# Altium schematic symbol library 190822 Integrated DED Equipment.SCHLIB: 43 symbols
Pins are listed as number, name and electrical type; pins without a type are passive.

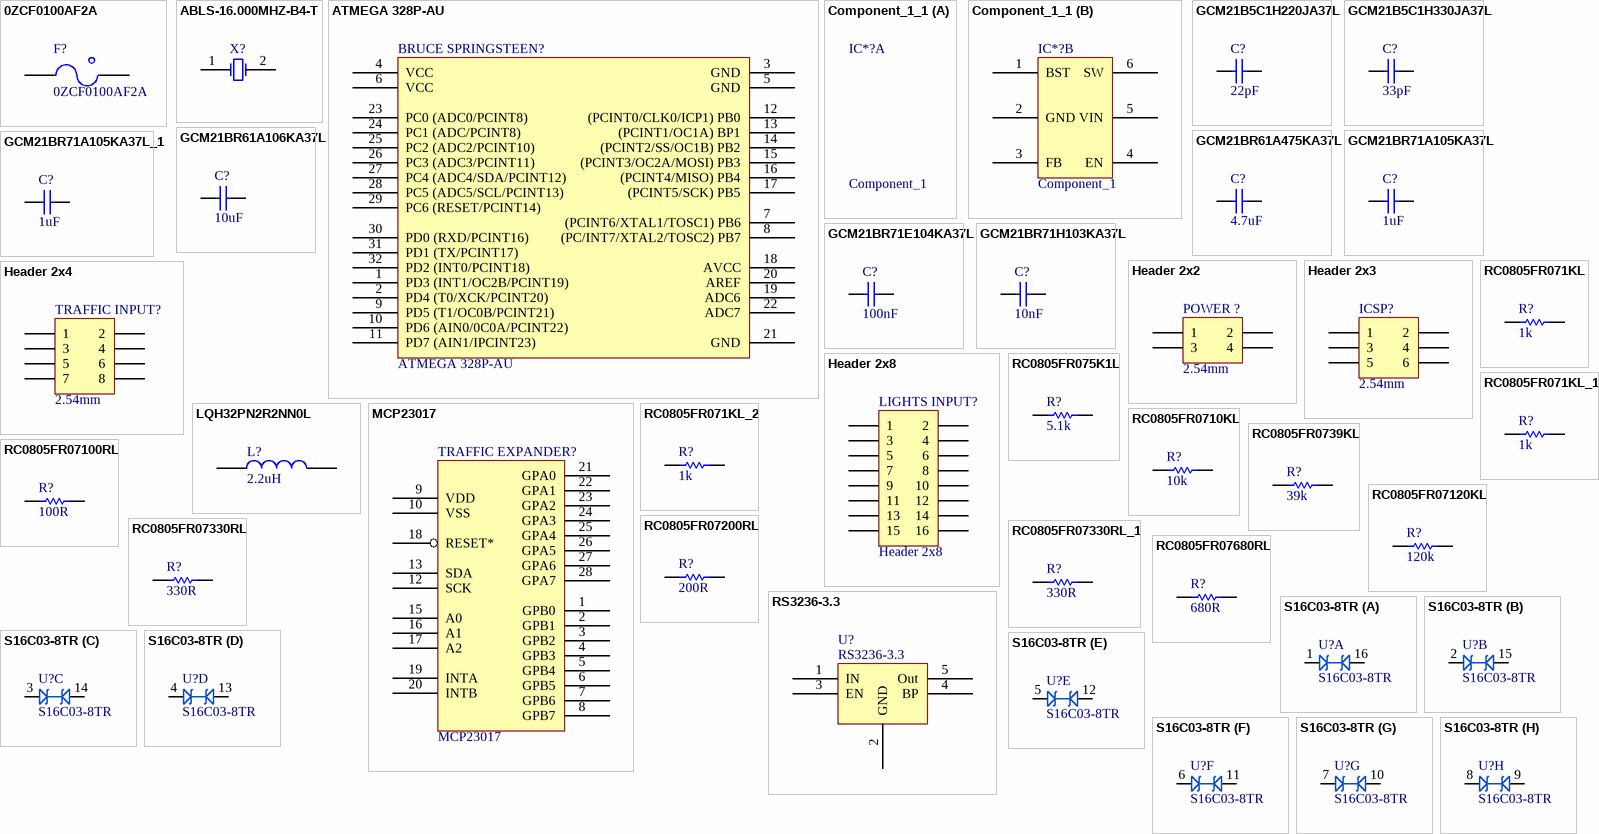
[diagram p0: symbols 0ZCF0100AF2A to S16C03-8TR]

## 0ZCF0100AF2A
designator F?
PTC RESET FUSE 60V 1A 292; Manufacturer: Littelfuse Inc.; Part Number: 0ZCF0100AF2A; Digikey Part Number: 507-2070-1-ND; Digikey Link: https://www.digikey.com/product-detail/en/bel-fuse-inc/0ZCF0100AF2A/507-2070-1-ND/6210547
footprint 2920
pins: 1, 2

## ABLS-16.000MHZ-B4-T
designator X?
Manufacturer: Abracon LLC; Part Number: ABLS-16.000MHZ-B4-T; Load Capacitance: 18pF; ESR: 40R; Digikey Part Number: 535-10226-1-ND; Digikey Link: https://www.digikey.com/product-detail/en/abracon-llc/ABLS-16.000MHZ-B4-T/535-10226-1-ND/2184261
footprint Abracon HC-49/US
pins: 1 OSC1, 2 OSC2

## ATMEGA 328P-AU
designator BRUCE SPRINGSTEEN?
AVR AVR® ATmega Microcontroller IC 8-Bit 20MHz 32KB (16K x 16) FLASH 32-TQFP (7x7); Manufacturer: ATMEL; Part Number: ATMEGA 328P-AU; Digikey Part Number: ATMEGA328P-AU-ND; Digikey Link: https://www.digikey.com/product-detail/en/microchip-technology/ATMEGA328P-AU/ATMEGA328P-AU-ND/1832260
footprint ATMEL TQFP-32
pins: 1 PD3 (INT1/OC2B/PCINT19) "(PCINT19/OC2B/INT1) PD3", 2 PD4 (T0/XCK/PCINT20) "(PCINT20/XCK/T0) PD4", 3 GND, 4 VCC, 5 GND, 6 VCC, 7 (PCINT6/XTAL1/TOSC1) PB6, 8 (PC/INT7/XTAL2/TOSC2) PB7, 9 PD5 (T1/OC0B/PCINT21) "(PCINT21/OC0B/T1) PD5", 10 PD6 (AIN0/0C0A/PCINT22) "(PCINT22/OC0A/AIN0) PD6", 11 PD7 (AIN1/IPCINT23) "(PCINT23/AIN1) PD7", 12 (PCINT0/CLK0/ICP1) PB0, 13 (PCINT1/OC1A) BP1, 14 (PCINT2/SS/OC1B) PB2, 15 (PCINT3/OC2A/MOSI) PB3, 16 (PCINT4/MISO) PB4, 17 (PCINT5/SCK) PB5 "PB5 (SCK/PCINT5)", 18 AVCC, 19 ADC6, 20 AREF, 21 GND, 22 ADC7, 23 PC0 (ADC0/PCINT8), 24 PC1 (ADC/PCINT8), 25 PC2 (ADC2/PCINT10), 26 PC3 (ADC3/PCINT11), 27 PC4 (ADC4/SDA/PCINT12), 28 PC5 (ADC5/SCL/PCINT13), 29 PC6 (RESET/PCINT14), 30 PD0 (RXD/PCINT16), 31 PD1 (TX/PCINT17), 32 PD2 (INT0/PCINT18)

## Component_1_1
designator IC*?, comment Component_1
MP2451
footprint MP2451 SOT23-6 (MP2451 SOT23-6 ADJ DCDC Buck Converter)
part B pins: 1 BST, 2 GND, 3 FB, 4 EN, 5 VIN, 6 SW

## GCM21B5C1H220JA37L
designator C?, comment 22pF
Part Number: GCM21B5C1H220JA37L; Manufacturer: muRata; Tolerance: 5%; Material: C0G; Rated Voltage: 50V; Value: 22pF
footprint 0805
pins: 1, 2

## GCM21B5C1H330JA37L
designator C?, comment 33pF
Part Number: GCM21B5C1H330JA37L; Manufacturer: muRata; Tolerance: 5%; Material: C0G; Rated Voltage: 50V; Value: 33pF
footprint 0805
pins: 1, 2

## GCM21BR61A106KA37L
designator C?, comment 10uF
Part Number: GCM21BR61A106KA37L; Manufacturer: muRata; Tolerance: 10%; Material: X5R; Rated Voltage: 10V; Value: 10uF
footprint 0805
pins: 1, 2

## GCM21BR61A475KA37L
designator C?, comment 4.7uF
Part Number: GCM21BR61A475KA37L; Manufacturer: muRata; Tolerance: 10%; Material: X5R; Rated Voltage: 10V; Value: 4.7uF
footprint 0805
pins: 1, 2

## GCM21BR71A105KA37L
designator C?, comment 1uF
Part Number: GCM21BR71A105KA37L; Manufacturer: muRata; Tolerance: 10%; Material: X7R; Rated Voltage: 10V; Value: 1uF
footprint 0805
pins: 1, 2

## GCM21BR71A105KA37L_1
designator C?, comment 1uF
Part Number: GCM21BR71A105KA37L; Manufacturer: muRata; Tolerance: 10%; Material: X7R; Rated Voltage: 10V; Value: 1uF
footprint 0805
pins: 1, 2

## GCM21BR71E104KA37L
designator C?, comment 100nF
Part Number: GCM21BR71E104KA37L; Manufacturer: muRata; Tolerance: 10%; Material: X7R; Rated Voltage: 25V; Value: 100nF
footprint 0805
pins: 1, 2

## GCM21BR71H103KA37L
designator C?, comment 10nF
Part Number: GCM21BR71H103KA37L; Manufacturer: muRata; Tolerance: 10%; Material: X7R; Rated Voltage: 50V; Value: 10nF
footprint 0805
pins: 1, 2

## Header 2x2
designator POWER ?, comment 2.54mm
Part Number: Header 2x2; Positions: 4; Angle: 0; Flange: No; Contact: NA; Pitch: 2.54mm; Row Spacing: 2.54mm
footprint Header 2x2
pins: 1, 2, 3, 4

## Header 2x3
designator ICSP?, comment 2.54mm
Part Number: Header 2x3; Positions: 6; Angle: 0; Flange: No; Contact: NA; Pitch: 2.54mm; Row Spacing: 2.54mm
footprint Header 2x3
pins: 1, 2, 3, 4, 5, 6

## Header 2x4
designator TRAFFIC INPUT?, comment 2.54mm
Part Number: Header 2x4; Positions: 8; Angle: 0; Flange: No; Contact: NA; Pitch: 2.54mm; Row Spacing: 2.54mm
footprint Header 2x4
pins: 1, 2, 3, 4, 5, 6, 7, 8

## Header 2x8
designator LIGHTS INPUT?
Positions: 16; Pitch: 2.54mm; Angle: 0; Flange: No; Contact: NA; Part Number: Header 2x8; Row Spacing: 2.54mm
footprint Header 2x8
pins: 1, 2, 3, 4, 5, 6, 7, 8, 9, 10, 11, 12, 13, 14, 15, 16

## LQH32PN2R2NN0L
designator L?, comment 2.2uH
Manufacturer: Murata; Part Number: LQH32PN2R2NN0L; Tolerance: 0.3; Rated Current: 1.55A; Value: 2.2uH; Digikey Part Number: 490-5336-1-ND
footprint 1210
pins: 1, 2

## MCP23017
designator TRAFFIC EXPANDER?
IC I/O EXPANDER I2C 16B 28SOIC; Manufacturer: Microchip Technology; Part Number: MCP23017; Digikey Part Number: MCP23017T-E/SOTR-ND; Digikey Link: https://www.digikey.com/product-detail/en/microchip-technology/MCP23017T-E-SO/MCP23017T-E-SOTR-ND/964184
footprint Microchip 28-SOIC
pins: 1 GPB0, 2 GPB1, 3 GPB2, 4 GPB3, 5 GPB4, 6 GPB5, 7 GPB6, 8 GPB7, 9 VDD, 10 VSS, 12 SCK, 13 SDA, 15 A0, 16 A1, 17 A2, 18 RESET*, 19 INTA, 20 INTB, 21 GPA0, 22 GPA1, 23 GPA2, 24 GPA3, 25 GPA4, 26 GPA5, 27 GPA6, 28 GPA7

## RC0805FR071KL
designator R?, comment 1k
Manufacturer: YAGEO; Part Number: RC0805FR071KL; Tolerance: 0.01; Rated Voltage: 0.125W; Value: 1k; Material: FR-07; qty: 50
footprint 0805
pins: 1, 2

## RC0805FR071KL_1
designator R?, comment 1k
Manufacturer: YAGEO; Part Number: RC0805FR071KL; Tolerance: 0.01; Rated Voltage: 0.125W; Value: 1k; Material: FR-07; qty: 50
footprint 0805
pins: 1, 2

## RC0805FR071KL_2
designator R?, comment 1k
Manufacturer: YAGEO; Part Number: RC0805FR071KL; Tolerance: 0.01; Rated Voltage: 0.125W; Value: 1k; Material: FR-07; qty: 50
footprint 0805
pins: 1, 2

## RC0805FR075K1L
designator R?, comment 5.1k
Manufacturer: YAGEO; Part Number: RC0805FR075K1L; Tolerance: 0.01; Rated Voltage: 0.125W; Value: 5.1k; Material: FR-07; qty: 50
footprint 0805
pins: 1, 2

## RC0805FR0710KL
designator R?, comment 10k
Part Number: RC0805FR0710KL; Manufacturer: YAGEO; Tolerance: 0.01; Rated Voltage: 0.125W; Value: 10k; Material: FR-07; qty: 50
footprint 0805
pins: 1, 2

## RC0805FR0739KL
designator R?, comment 39k
Manufacturer: YAGEO; Part Number: RC0805FR0739KL; Tolerance: 0.01; Rated Voltage: 0.125W; Value: 39k; Material: FR-07; qty: 50
footprint 0805
pins: 1, 2

## RC0805FR07100RL
designator R?, comment 100R
Part Number: RC0805FR07100RL; Manufacturer: YAGEO; Tolerance: 0.01; Rated Voltage: 0.125W; Value: 100R; Material: FR-07; qty: 50
footprint 0805
pins: 1, 2

## RC0805FR07120KL
designator R?, comment 120k
Manufacturer: YAGEO; Part Number: RC0805FR07120KL; Tolerance: 0.01; Rated Voltage: 0.125W; Value: 120k; Material: FR-07; qty: 50
footprint 0805
pins: 1, 2

## RC0805FR07200RL
designator R?, comment 200R
Manufacturer: YAGEO; Part Number: RC0805FR07200RL; Tolerance: 0.01; Rated Voltage: 0.125W; Value: 200R; Material: FR-07; qty: 50
footprint 0805
pins: 1, 2

## RC0805FR07330RL
designator R?, comment 330R
Part Number: RC0805FR07330RL; Manufacturer: YAGEO; Tolerance: 0.01; Rated Voltage: 0.125W; Value: 330R; Material: FR-07; qty: 50
footprint 0805
pins: 1, 2

## RC0805FR07330RL_1
designator R?, comment 330R
Part Number: RC0805FR07330RL; Manufacturer: YAGEO; Tolerance: 0.01; Rated Voltage: 0.125W; Value: 330R; Material: FR-07; qty: 50
footprint 0805
pins: 1, 2

## RC0805FR07680RL
designator R?, comment 680R
Manufacturer: YAGEO; Part Number: RC0805FR07680RL; Tolerance: 0.01; Rated Voltage: 0.125W; Value: 680R; Material: FR-07; qty: 50
footprint 0805
pins: 1, 2

## RS3236-3.3
designator U?
Low Power, Low Dropout, 500mA RF LinearRegulators; Manufacturer: RUNIC; Part Number: RS3236-3.3; Digikey Link: http://www.run-ic.com/Public/attached/file/201811/1542246949_88491.pdf
footprint Runic SOT-23-5
pins: 1 IN "Regulator Input. Supply voltage can range from 1.7V to 7.5V. Bypass with a 1μF capacitor to GN", 2 GND "Ground", 3 EN "Enable (Active High)", 4 BP "Enable (Active High)Reference-Noise Bypass (fixed voltage version only). Bypass with a low-leakage 0.01μF  ceramic  capacitor  for  reduced  noise  at  the  output. The  capacitor  is recommended to be placed very close to the pin for high", 5 Out "Output"

## S16C03-8TR
designator U?
PD 300W VWM 3.3VCJ 425PFPACKAGE; Manufacturer: SMC Diode; Part Number: S16C03-8TR; Digikey Part Number: 1655-2152-2-ND; Digikey Link: https://www.digikey.com/product-detail/en/smc-diode-solutions/S16C03-8TR/1655-2152-2-ND/9816814
footprint SMC 16-SOIC
part A pins: 1 A, 16 A
part B pins: 2 A, 15 A
part C pins: 3 A, 14 A
part D pins: 4 A, 13 A
part E pins: 5 A, 12 A
part F pins: 6 A, 11 A
part G pins: 7 A, 10 A
part H pins: 8 A, 9 A

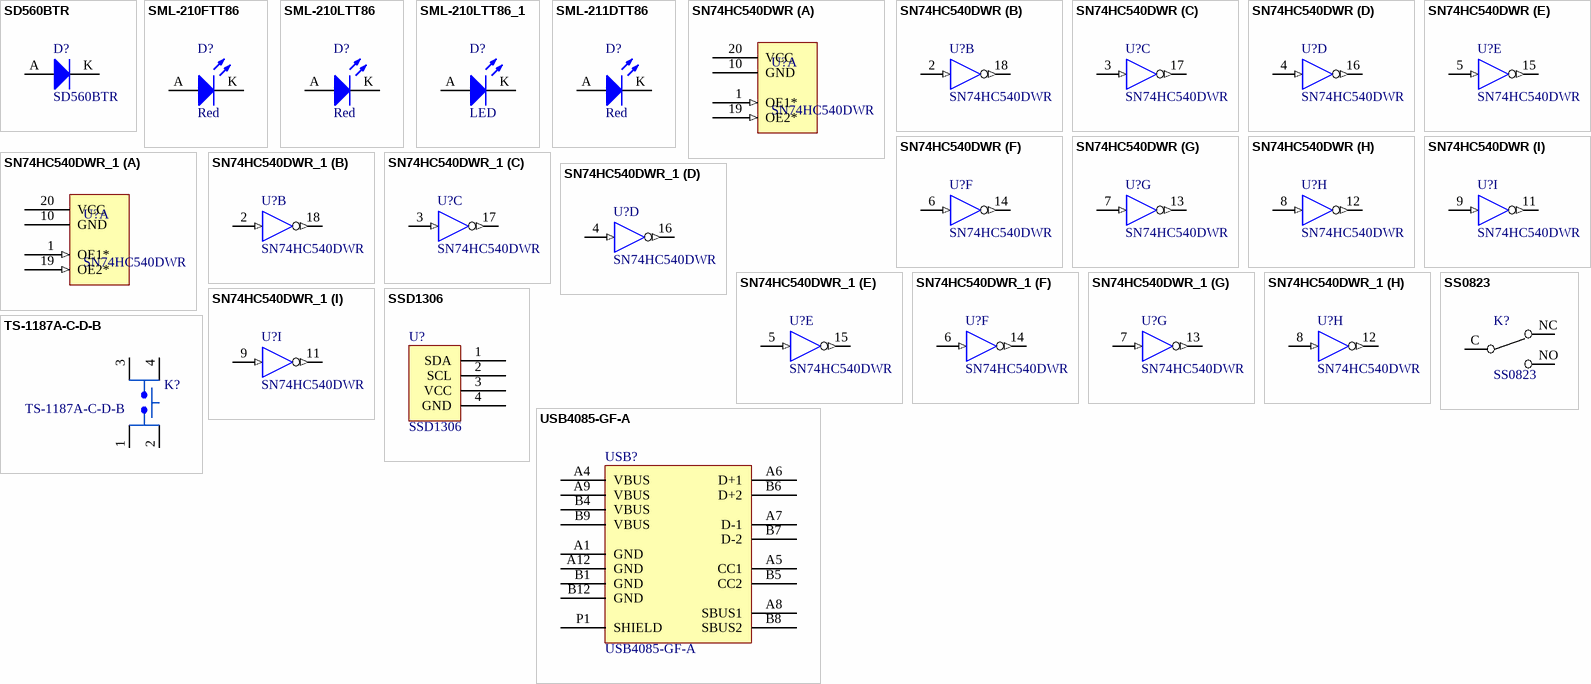
[diagram p1: symbols SD560BTR to USB4085-GF-A]

## SD560BTR
designator D?
1.2V_F 600V 5A SMB; Manufacturer: SMC Diode Solutions; Part Number: SD560BTR; Digikey Part Number: 1655-1530-2-ND; Digikey Link: https://www.digikey.com/product-detail/en/smc-diode-solutions/SD560BTR/1655-1530-2-ND/6022620
footprint SMB Diode
pins: A, K

## SML-210FTT86
designator D?, comment Red
Green LED Indication - Discrete 1.75V 0805 (2012 Metric); Manufacturer: ROHM Semiconductor; Part Number: SML-210FTT86; Colour: Red; Digikey Part Number: 511-1285-1-ND; Digikey Link: https://www.digikey.com/product-detail/en/rohm-semiconductor/SML-210FTT86/511-1285-1-ND/637098
footprint 0805 LED
pins: A, K

## SML-210LTT86
designator D?, comment Red
Red LED Indication - Discrete 1.75V 0805 (2012 Metric); Manufacturer: ROHM Semiconductor; Part Number: SML-210LTT86; Colour: Red; Digikey Part Number: 511-1286-1-ND; Digikey Link: https://www.digikey.com/product-detail/en/rohm-semiconductor/SML-210LTT86/511-1286-1-ND/637099
footprint 0805 LED
pins: A, K

## SML-210LTT86_1
designator D?, comment LED
Red LED Indication - Discrete 1.75V 0805 (2012 Metric); Manufacturer: ROHM Semiconductor; Part Number: SML-210LTT86; Colour: Red; Digikey Part Number: 511-1286-1-ND; Digikey Link: https://www.digikey.com/product-detail/en/rohm-semiconductor/SML-210LTT86/511-1286-1-ND/637099
footprint 0805 LED
pins: A, K

## SML-211DTT86
designator D?, comment Red
Orange LED Indication - Discrete 1.75V 0805 (2012 Metric); Manufacturer: ROHM Semiconductor; Part Number: SML-211DTT86; Colour: Red; Digikey Part Number: 511-1291-1-ND; Digikey Link: https://www.digikey.com/product-detail/en/rohm-semiconductor/SML-211DTT86/511-1291-1-ND/637104
footprint 0805 LED
pins: A, K

## SN74HC540DWR
designator U?
IC BUFFER INVERT 6V 20SOIC; Manufacturer: Texas Instruments; Part Number: SN74HC540DWR; Digikey Part Number: 296-8333-1-ND; Digikey Link: https://www.digikey.com/product-detail/en/texas-instruments/SN74HC540DWR/296-8333-1-ND/376710
footprint TI 20-SOIC
part A pins: 1 OE1* (in), 10 GND (power), 19 OE2* (in), 20 VCC (power)
part B pins: 2 A1 (in), 18 Y1 (out)
part C pins: 3 A2 (in), 17 Y2 (out)
part D pins: 4 A3 (in), 16 Y3 (out)
part E pins: 5 A4 (in), 15 Y5 (out)
part F pins: 6 A5 (in), 14 Y5 (out)
part G pins: 7 A6 (in), 13 Y6 (out)
part H pins: 8 A7 (in), 12 Y7 (out)
part I pins: 9 A8 (in), 11 Y8 (out)

## SN74HC540DWR_1
designator U?, comment SN74HC540DWR
IC BUFFER INVERT 6V 20SOIC; Manufacturer: Texas Instruments; Part Number: SN74HC540DWR; Digikey Part Number: 296-8333-1-ND; Digikey Link: https://www.digikey.com/product-detail/en/texas-instruments/SN74HC540DWR/296-8333-1-ND/376710
footprint TI 20-SOIC
part A pins: 1 OE1* (in), 10 GND (power), 19 OE2* (in), 20 VCC (power)
part B pins: 2 A1 (in), 18 Y1 (out)
part C pins: 3 A2 (in), 17 Y2 (out)
part D pins: 4 A3 (in), 16 Y3 (out)
part E pins: 5 A4 (in), 15 Y5 (out)
part F pins: 6 A5 (in), 14 Y5 (out)
part G pins: 7 A6 (in), 13 Y6 (out)
part H pins: 8 A7 (in), 12 Y7 (out)
part I pins: 9 A8 (in), 11 Y8 (out)

## SS0823
designator K?
SPDT Switch; Manufacturer: Jaycar; Part Number: SS0823; Digikey Link: https://www.jaycar.com.au/sub-miniature-dpdt-pcb-mount-switch/p/SS0823
footprint Jaycar 2.54 SPDT Slide
pins: C, NC, NO

## SSD1306
designator U?
AU 0.91" IIC I2C OLED LCD Display Module 128x32 for Arduino PIC SSD1306 3.3V~5V; Part Number: SSD1306; Manufacturer: IIC; Digikey Link: https://www.ebay.com.au/itm/AU-0-91-IIC-I2C-OLED-LCD-Display-Module-128x32-for-Arduino-PIC-SSD1306-3-3V-5V/173740276759?_trkparms=ispr%3D1&hash=item2873ba3c17:m:mtuBFdundu-sO8SF14N9s0Q&enc=AQAEAAACMBPxNw%2BVj6nta7CKEs3N0qXGdDgw5AbtZBK2GBjvTzu8XHiBcI5uLQY2T5XcetHUGO8PuZRarzai%2FQnEDe6BkxUq23f79SyeGX5oa6nluXFEGG0Hz2gFX11EJ6GYaVvL7i6kc6va81t%2FwKg3W0ssZIxhwwMp0Eh%2BfoN3%2FrnYSkd7s7YclAfVoAj%2BaE2AwEV5QVm85FaIjCJvvMHeJfphryi2paEsyevtRWBIghk8SFidXOvhtC5GCTPSeR9JXfeRjZVxl7mexAnG4x8z49OuYCtQWuXZ9QNvOo3RMcMk%2F5bSItT0RwsIG0jBwvLODPvisKQIMwRXM3MwGj9yzOyOZYIdpSvnofANN%2Fg9hrlJjeHKizw4Ga6LAey%2BlexpCRBABzUaVccJco2%2FpVNKV1UVGCKL5zr4%2BwfYHs3IhPQhs65tz9jQnmL6CNZlKVyXJoCkgaVFgwBlkVflMYXL%2BQ6ywD4h3STo%2FCt3NyZDCdseYf54DzEjZBuIFx9YEq5QtoLI1kcGm1pkCFMvpRESH1WvSd%2FgKEiZ8Xf%2FKWTNYoiWh5m%2B%2BiQiSwxthHjU08rIAcRCZgCaKv35l0XRTQIvsqBsEvCN18uoS38NBw5YpFlkSUvSRdNi1QRiSdeRE0SvVLNR2j1ewKdsSHUlME7ra59o1zZ5%2FQh633FqSubhH0lMpD%2FWH%2B%2F9jRhKc0S%2BULy7rnlhuKVSUd%2BeIjdIOrTIRkWcIYPrX11YwluhIJrHwWBB4uET&checksum=17374027675912d05a9cae6e455683321d2000ae08a5&enc=AQAEAAACMBPxNw%2BVj6nta7CKEs3N0qXGdDgw5AbtZBK2GBjvTzu8XHiBcI5uLQY2T5XcetHUGO8PuZRarzai%2FQnEDe6BkxUq23f79SyeGX5oa6nluXFEGG0Hz2gFX11EJ6GYaVvL7i6kc6va81t%2FwKg3W0ssZIxhwwMp0Eh%2BfoN3%2FrnYSkd7s7YclAfVoAj%2BaE2AwEV5QVm85FaIjCJvvMHeJfphryi2paEsyevtRWBIghk8SFidXOvhtC5GCTPSeR9JXfeRjZVxl7mexAnG4x8z49OuYCtQWuXZ9QNvOo3RMcMk%2F5bSItT0RwsIG0jBwvLODPvisKQIMwRXM3MwGj9yzOyOZYIdpSvnofANN%2Fg9hrlJjeHKizw4Ga6LAey%2BlexpCRBABzUaVccJco2%2FpVNKV1UVGCKL5zr4%2BwfYHs3IhPQhs65tz9jQnmL6CNZlKVyXJoCkgaVFgwBlkVflMYXL%2BQ6ywD4h3STo%2FCt3NyZDCdseYf54DzEjZBuIFx9YEq5QtoLI1kcGm1pkCFMvpRESH1WvSd%2FgKEiZ8Xf%2FKWTNYoiWh5m%2B%2BiQiSwxthHjU08rIAcRCZgCaKv35l0XRTQIvsqBsEvCN18uoS38NBw5YpFlkSUvSRdNi1QRiSdeRE0SvVLNR2j1ewKdsSHUlME7ra59o1zZ5%2FQh633FqSubhH0lMpD%2FWH%2B%2F9jRhKc0S%2BULy7rnlhuKVSUd%2BeIjdIOrTIRkWcIYPrX11YwluhIJrHwWBB4uET&checksum=17374027675912d05a9cae6e455683321d2000ae08a5&frcectupt=true
footprint IIC 128x32 OLED
pins: 1 SDA, 2 SCL, 3 VCC, 4 GND

## TS-1187A-C-D-B
designator K?
TACTILE SWITCHES SPST 5.10MM X 5.10MM 0.80MM SMD ROHS; Manufacturer: XKB Enerprise; Part Number: TS-1187A-C-D-B; Digikey Link: https://jlcpcb.com/client/index.html#/parts/componentSearch?searchTxt=usb
footprint XKB SW-4.5
pins: 1 VDD, 2 VDD, 3 VDD, 4 VDD

## USB4085-GF-A
designator USB?
USB - C (Type - C) USB 2.0 Receptacle Connector 16 Position Through Hole, Right Angle; Angle: 90; Part Number: USB4085-GF-A; Digikey Part Number: 2073-USB4085-GF-ACT-ND; Digikey Link: https://www.digikey.ee/product-detail/en/gct/USB4085-GF-A/2073-USB4085-GF-ACT-ND/9859733
footprint USB4085-GF-A
pins: A1 GND, A4 VBUS, A5 CC1, A6 D+1, A7 D-1, A8 SBUS1, A9 VBUS, A12 GND, B1 GND, B4 VBUS, B5 CC2, B6 D+2, B7 D-2, B8 SBUS2, B9 VBUS, B12 GND, P1 SHIELD